# Altium footprint library MINI_PCIE.PcbLib: 4 footprints
Each footprint in its own frame and in the unit in brackets; x right, y up, seen from the top. Pads: shape width x height; smd on the part's side, far side on the other; paste and mask are expansions set on the pad; w line width, h text height; cw(c..) or ccw(c..) is an arc to the next point about the centre after c.
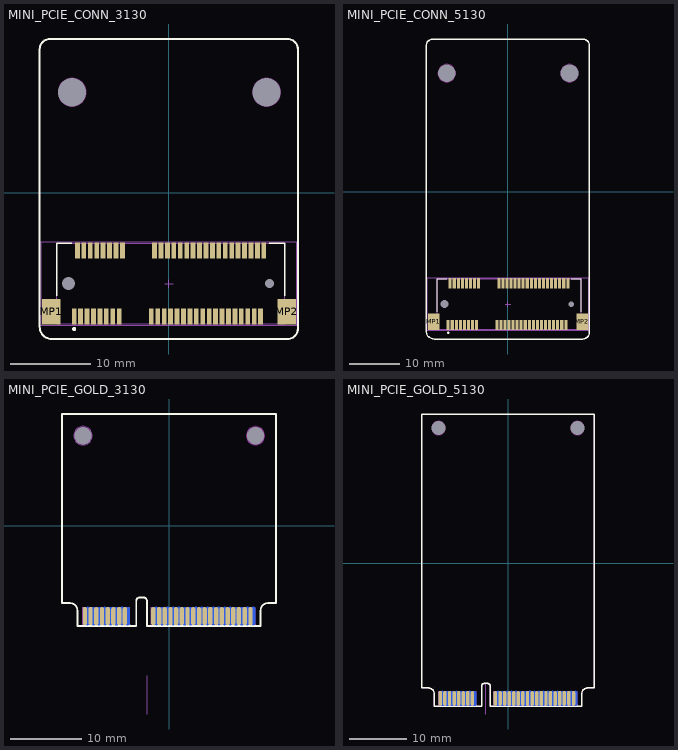
[diagram p0: the footprints below, top view; thin cyan lines are the x and y axes]

## MINI_PCIE_CONN_3130 [mm]
pads (58):
  round 0 hole 3.5: 0(-12.06,12.539) 0(12.14,12.539)
  rect 0.6x2 smd: 1(-11.8,-15.385) 2(-11.4,-7.185) 3(-11,-15.385) 4(-10.6,-7.185) 5(-10.2,-15.385) 6(-9.8,-7.185) 7(-9.4,-15.385) 8(-9,-7.185) 9(-8.6,-15.385) 10(-8.2,-7.185) 11(-7.8,-15.385) 12(-7.4,-7.185) 13(-7,-15.385) 14(-6.6,-7.185) 15(-6.2,-15.385) 16(-5.8,-7.185) 17(-2.2,-15.385) 18(-1.8,-7.185) 19(-1.4,-15.385) 20(-1,-7.185) 21(-0.6,-15.385) 22(-0.2,-7.185) 23(0.2,-15.385) 24(0.6,-7.185) 25(1,-15.385) 26(1.4,-7.185) 27(1.8,-15.385) 28(2.2,-7.185) 29(2.6,-15.385) 30(3,-7.185) 31(3.4,-15.385) 32(3.8,-7.185) 33(4.2,-15.385) 34(4.6,-7.185) 35(5,-15.385) 36(5.4,-7.185) 37(5.8,-15.385) 38(6.2,-7.185) 39(6.6,-15.385) 40(7,-7.185) 41(7.4,-15.385) 42(7.8,-7.185) 43(8.2,-15.385) 44(8.6,-7.185) 45(9,-15.385) 46(9.4,-7.185) 47(9.8,-15.385) 48(10.2,-7.185) 49(10.6,-15.385) 50(11,-7.185) 51(11.4,-15.385) 52(11.8,-7.185)
  round 0 hole 1.6 unplated: MH1(-12.5,-11.285)
  round 0 hole 1.1 unplated: MH2(12.5,-11.285)
  rect 2.3x3.2 smd: MP1(-14.65,-14.785) MP2(14.65,-14.785)
Top Overlay:
  circle w0.25: c-11.8,-16.935 r0.125
  lines w0.2: -13.975,-12.785 -13.975,-6.285 -12.1,-6.285 ; 12.5,-6.285 14.425,-6.285 14.425,-12.785
  lines w0.254: -16.095,-16.668 ccw(c-14.584,-16.668) -14.584,-18.179 14.766,-18.179 ccw(c14.766,-16.909) 16.036,-16.909 16.036,16.492 16.036,17.889 ccw(c14.766,17.889) 14.766,19.159 -14.825,19.159 ccw(c-14.825,17.889) -16.095,17.889 -16.095,16.492 -16.095,-16.668
Keep-Out Layer:
  circle w0.1: c-12.06,12.539 r1.75
  circle w0.1: c12.14,12.539 r1.75
Mechanical 13:
  lines w0.1: -13.975,-16.285 -13.975,-6.285 14.425,-6.285 14.425,-16.285 -13.975,-16.285
Mechanical 15:
  lines w0.05: -15.9,-16.485 15.9,-16.485 15.9,-6.085 -15.9,-6.085 -15.9,-16.485
  lines w0.1: -0.5,-11.285 0.5,-11.285 ; 0,-11.785 0,-10.785
3D body: height 5.9, standoff 0, extent -14.063,-16.067 14.337,-6.067

## MINI_PCIE_CONN_5130 [mm]
pads (58):
  round 0 hole 3.5: 0(-12.077,23.34) 0(12.123,23.34)
  rect 0.6x2 smd: 1(-11.8,-26.296) 2(-11.4,-18.096) 3(-11,-26.296) 4(-10.6,-18.096) 5(-10.2,-26.296) 6(-9.8,-18.096) 7(-9.4,-26.296) 8(-9,-18.096) 9(-8.6,-26.296) 10(-8.2,-18.096) 11(-7.8,-26.296) 12(-7.4,-18.096) 13(-7,-26.296) 14(-6.6,-18.096) 15(-6.2,-26.296) 16(-5.8,-18.096) 17(-2.2,-26.296) 18(-1.8,-18.096) 19(-1.4,-26.296) 20(-1,-18.096) 21(-0.6,-26.296) 22(-0.2,-18.096) 23(0.2,-26.296) 24(0.6,-18.096) 25(1,-26.296) 26(1.4,-18.096) 27(1.8,-26.296) 28(2.2,-18.096) 29(2.6,-26.296) 30(3,-18.096) 31(3.4,-26.296) 32(3.8,-18.096) 33(4.2,-26.296) 34(4.6,-18.096) 35(5,-26.296) 36(5.4,-18.096) 37(5.8,-26.296) 38(6.2,-18.096) 39(6.6,-26.296) 40(7,-18.096) 41(7.4,-26.296) 42(7.8,-18.096) 43(8.2,-26.296) 44(8.6,-18.096) 45(9,-26.296) 46(9.4,-18.096) 47(9.8,-26.296) 48(10.2,-18.096) 49(10.6,-26.296) 50(11,-18.096) 51(11.4,-26.296) 52(11.8,-18.096)
  round 0 hole 1.6 unplated: MH1(-12.5,-22.196)
  round 0 hole 1.1 unplated: MH2(12.5,-22.196)
  rect 2.3x3.2 smd: MP1(-14.65,-25.696) MP2(14.65,-25.696)
Top Overlay:
  circle w0.25: c-11.8,-27.847 r0.125
  lines w0.2: -13.975,-23.697 -13.975,-17.197 -12.1,-17.197 ; 12.5,-17.197 14.425,-17.197 14.425,-23.697
  lines w0.254: -16.095,-27.579 ccw(c-14.584,-27.579) -14.584,-29.09 14.766,-29.09 ccw(c14.766,-27.82) 16.036,-27.82 16.036,5.581 16.036,6.978 16.036,28.822 ccw(c14.766,28.822) 14.766,30.092 -14.825,30.092 ccw(c-14.825,28.822) -16.095,28.822 -16.095,6.978 -16.095,5.581 -16.095,-27.579
Keep-Out Layer:
  circle w0.1: c12.123,23.34 r1.75
  lines w0.1: -10.327,23.378 ccw(c-12.077,23.34) -10.327,23.34
Mechanical 13:
  lines w0.1: -13.975,-27.197 14.425,-27.197 14.425,-17.197 -13.975,-17.197 -13.975,-27.197
Mechanical 15:
  lines w0.05: -15.9,-27.396 -15.9,-16.997 15.9,-16.997 15.9,-27.396 -15.9,-27.396
  lines w0.1: -0.5,-22.197 0.5,-22.197 ; 0,-22.697 0,-21.697
3D body: height 5.9, standoff 0, extent -14.063,-26.978 14.337,-16.978

## MINI_PCIE_GOLD_3130 [mm]
height 12.75
pads (54):
  round 0 hole 2.4: 0(-12.1,12.655) 0(12.1,12.655)
  oval 0.6x2.55 smd: 1(-11.828,-12.618) 3(-11.028,-12.618) 5(-10.235,-12.647) 7(-9.433,-12.638) 9(-8.628,-12.618) 11(-7.835,-12.647) 13(-7.028,-12.618) 15(-6.235,-12.647) 17(-2.235,-12.647) 19(-1.41,-12.647) 21(-0.635,-12.647) 23(0.19,-12.647) 25(0.965,-12.647) 27(1.765,-12.647) 29(2.565,-12.647) 31(3.365,-12.647) 33(4.19,-12.647) 35(4.965,-12.647) 37(5.758,-12.618) 39(6.59,-12.647) 41(7.365,-12.647) 43(8.19,-12.647) 45(8.972,-12.618) 47(9.758,-12.618) 49(10.572,-12.618) 51(11.39,-12.647)
  oval 0.6x2.55 smd far side: 2(-11.442,-12.618) 4(-10.635,-12.647) 6(-9.835,-12.647) 8(-9.028,-12.618) 10(-8.235,-12.647) 12(-7.435,-12.647) 14(-6.628,-12.618) 16(-5.835,-12.647) 18(-1.813,-12.618) 20(-1.035,-12.647) 22(-0.242,-12.618) 24(0.558,-12.618) 26(1.358,-12.618) 28(2.165,-12.647) 30(2.965,-12.647) 32(3.775,-12.604) 34(4.572,-12.618) 36(5.372,-12.618) 38(6.158,-12.618) 40(6.958,-12.618) 42(7.758,-12.618) 44(8.558,-12.618) 46(9.363,-12.655) 48(10.165,-12.647) 50(10.972,-12.618) 52(11.758,-12.618)
Top Overlay:
  lines w0.254: -15.035,-10.822 -13.885,-10.822 cw(c-13.885,-11.822) -12.885,-11.822 -12.885,-14.022 -4.635,-14.022 -4.635,-10.522 cw(c-4.135,-10.522) -4.135,-10.022 -3.635,-10.022 cw(c-3.635,-10.522) -3.135,-10.522 -3.135,-14.022 12.815,-14.022 12.815,-11.822 cw(c13.815,-11.822) 13.815,-10.822 14.965,-10.822 14.965,15.703 -15.035,15.703 -15.035,-10.822
Keep-Out Layer:
  circle w0.1: c-12.1,12.655 r1.2
  circle w0.1: c12.1,12.655 r1.3
Mechanical 1:
  drawing of 175 lines, arcs and shapes, not listed
Mechanical 7:
  drawing of 181 lines, arcs and shapes, not listed

## MINI_PCIE_GOLD_5130 [mm]
height 12.75
pads (54):
  round 0 hole 2.4: 0(-12.1,23.567) 0(12.1,23.567)
  oval 0.6x2.55 smd: 1(-11.793,-23.529) 3(-10.993,-23.529) 5(-10.2,-23.558) 7(-9.398,-23.55) 9(-8.593,-23.529) 11(-7.8,-23.558) 13(-6.993,-23.529) 15(-6.2,-23.558) 17(-2.2,-23.558) 19(-1.375,-23.558) 21(-0.6,-23.558) 23(0.225,-23.558) 25(1,-23.558) 27(1.8,-23.558) 29(2.6,-23.558) 31(3.4,-23.558) 33(4.225,-23.558) 35(5,-23.558) 37(5.793,-23.529) 39(6.625,-23.558) 41(7.4,-23.558) 43(8.225,-23.558) 45(9.007,-23.529) 47(9.793,-23.529) 49(10.607,-23.529) 51(11.425,-23.558)
  oval 0.6x2.55 smd far side: 2(-11.407,-23.529) 4(-10.6,-23.558) 6(-9.8,-23.558) 8(-8.993,-23.529) 10(-8.2,-23.558) 12(-7.4,-23.558) 14(-6.593,-23.529) 16(-5.8,-23.558) 18(-1.778,-23.529) 20(-1,-23.558) 22(-0.207,-23.529) 24(0.593,-23.529) 26(1.393,-23.529) 28(2.2,-23.558) 30(3,-23.558) 32(3.81,-23.516) 34(4.607,-23.529) 36(5.407,-23.529) 38(6.193,-23.529) 40(6.993,-23.529) 42(7.793,-23.529) 44(8.593,-23.529) 46(9.398,-23.567) 48(10.2,-23.558) 50(11.007,-23.529) 52(11.793,-23.529)
Top Overlay:
  lines w0.254: -15,-21.733 -15,26.017 15,26.017 15,-21.733 13.85,-21.733 ccw(c13.85,-22.733) 12.85,-22.733 12.85,-24.933 -3.1,-24.933 -3.1,-21.433 ccw(c-3.6,-21.433) -3.6,-20.933 -4.1,-20.933 ccw(c-4.1,-21.433) -4.6,-21.433 -4.6,-24.933 -12.85,-24.933 -12.85,-22.733 ccw(c-13.85,-22.733) -13.85,-21.733 -15,-21.733
Keep-Out Layer:
  circle w0.1: c12.1,23.567 r1.2
  circle w0.1: c-12.1,23.567 r1.2
Mechanical 1:
  drawing of 175 lines, arcs and shapes, not listed
Mechanical 7:
  drawing of 196 lines, arcs and shapes, not listed